# EAGLE library part AP7362-33SP-13 (library AP7362-33SP-13)
LDO Voltage Regulators LDO CMOS HiCurr SO-8 1.5A LowQ Adj 190mV Source: Datasheet <https://www.diodes.com//assets/Datasheets/AP7362.pdf>
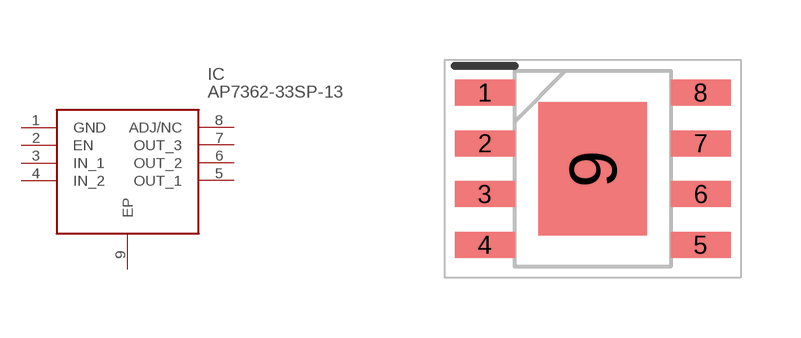
[diagram p0: symbol with the pads of SOIC127P600X150-9N; footprint SOIC127P600X150-9N]

Designator prefix IC

## AP7362-33SP-13 (Description: LDO Voltage Regulators LDO CMOS HiCurr SO-8 1.5A LowQ Adj 190mV; Height: 1.5mm; Manufacturer_Name: Diodes Incorporated; Manufacturer_Part_Number: AP7362-33SP-13; Mouser_Part_Number: 621-AP7362-33SP-13; Mouser_Price-Stock: https://www.mouser.co.uk/ProductDetail/Diodes-Incorporated/AP7362-33SP-13?qs=KKV7F4CK8NmzeNAjtGP7xA%3D%3D)  [SOIC127P600X150-9N]
1  GND
2  EN
3  IN_1
4  IN_2
5  OUT_1
6  OUT_2
7  OUT_3
8  ADJ/NC
9  EP

## Footprint SOIC127P600X150-9N (pad centres in mm)
SO-8EP_2024-1
smd 1.5 x 0.65: 1 -2.7,1.905; 2 -2.7,0.635; 3 -2.7,-0.635; 4 -2.7,-1.905; 5 2.7,-1.905; 6 2.7,-0.635; 7 2.7,0.635; 8 2.7,1.905
smd 2.71 x 3.35: 9 0,0